# EAGLE library part RJ11_SPI (library ingolia)
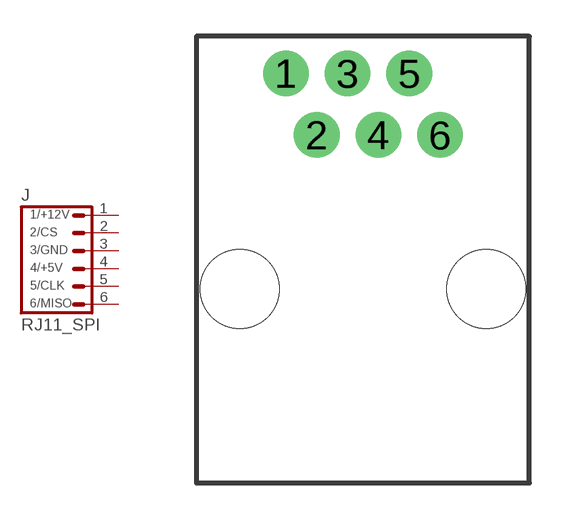
[diagram p4: symbol with the pads of RJ11; footprint RJ11]

Designator prefix J

## RJ11_SPI  [RJ11]
1  1/+12V  pas
2  2/CS  pas
3  3/GND  pas
4  4/+5V  pas
5  5/CLK  pas
6  6/MISO  pas

## Footprint RJ11 (pad centres in mm)
drill 1.016 pad 1.88: 1 1.905,8.89; 2 3.175,6.35; 3 4.445,8.89; 4 5.715,6.35; 5 6.985,8.89; 6 8.255,6.35
hole 3.251 at 0,0
hole 3.251 at 10.16,0